# Altium schematic symbol library MEMS.SchLib: 2 symbols
Pins are listed as number, name and electrical type; pins without a type are passive.

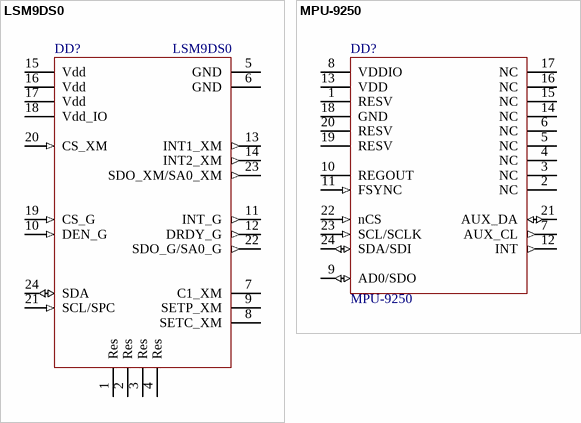
[diagram p0: symbols LSM9DS0 to MPU-9250]

## LSM9DS0
designator DD?
3D accelerometer, 3D gyroscope, 3D magnetometer
footprint LGA24C50P8X8_400X400X107 (LGA, 24-Leads, Body 4,00x4,00mmx1,07mm, Pitch 0,50mm)
pins: 1 Res, 2 Res, 3 Res, 4 Res, 5 GND (power), 6 GND (power), 7 C1_XM, 8 SETC_XM, 9 SETP_XM, 10 DEN_G (in), 11 INT_G (out), 12 DRDY_G (out), 13 INT1_XM (out), 14 INT2_XM (out), 15 Vdd (power), 16 Vdd (power), 17 Vdd (power), 18 Vdd_IO (power), 19 CS_G (in), 20 CS_XM (in), 21 SCL/SPC (in), 22 SDO_G/SA0_G (out), 23 SDO_XM/SA0_XM (out), 24 SDA (io)

## MPU-9250
designator DD?
footprint QFN40P300X300X105_HS-25N (QFN, 24-Leads, Body 3,00x3,00mm, Pitch 0,40mm, Thermal Pad 1,70x1,54mm, IPC Medium Density)
pins: 1 RESV, 2 NC, 3 NC, 4 NC, 5 NC, 6 NC, 7 AUX_CL (out), 8 VDDIO (power), 9 AD0/SDO (io), 10 REGOUT, 11 FSYNC (in), 12 INT (out), 13 VDD (power), 14 NC, 15 NC, 16 NC, 17 NC, 18 GND (power), 19 RESV, 20 RESV, 21 AUX_DA (io), 22 nCS (in), 23 SCL/SCLK (in), 24 SDA/SDI (io)